# Altium schematic symbol library cs42448_breakout.SchLib: 2 symbols
Pins are listed as number, name and electrical type; pins without a type are passive.

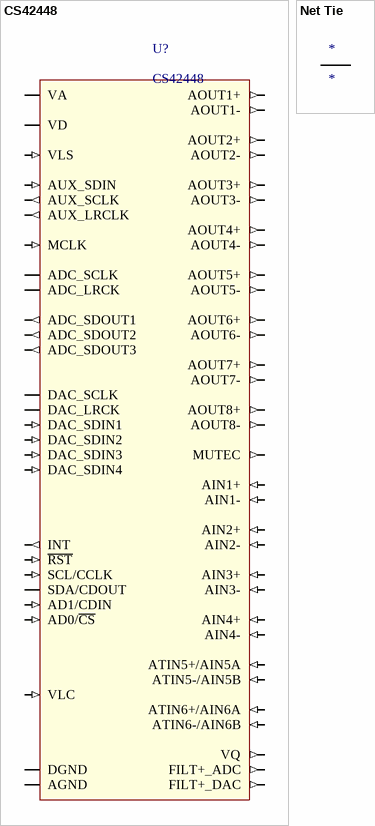
[diagram p0: symbols CS42448 to Net Tie]

## CS42448
designator U?
108 dB, 192 kHz 6-In, 8-Out CODEC
footprint 64L-LQFP
pins: 1 AD0/~{CS} (in), 2 AD1/CDIN (in), 3 ~{RST} (in), 4 VLC (in), 5 ADC_LRCK (io), 6 VD (power), 7 DGND (power), 8 VLS (in), 9 ADC_SCLK (io), 10 MCLK (in), 11 ADC_SDOUT3 (out), 12 ADC_SDOUT2 (out), 13 ADC_SDOUT1 (out), 14 DAC_SDIN4 (in), 15 DAC_SDIN3 (in), 16 DAC_SDIN2 (in), 17 DAC_SDIN1 (in), 18 DAC_SCLK (io), 19 DAC_LRCK (io), 20 AUX_LRCLK (out), 21 AUX_SCLK (out), 22 AUX_SDIN (in), 23 DGND (power), 24 VD (power), 25 AOUT1- (out), 26 AOUT1+ (out), 27 AOUT2+ (out), 28 AOUT2- (out), 29 AOUT3- (out), 30 AOUT3+ (out), 31 AOUT4+ (out), 32 AOUT4- (out), 33 AOUT5- (out), 34 AOUT5+ (out), 35 MUTEC (out), 36 AOUT6+ (out), 37 AOUT6- (out), 38 AOUT7- (out), 39 AOUT7+ (out), 40 AOUT8+ (out), 41 AOUT8- (out), 42 AGND (power), 43 VQ (out), 44 VA (power), 45 AIN1- (in), 46 AIN1+ (in), 47 AIN2- (in), 48 AIN2+ (in), 49 AIN3- (in), 50 AIN3+ (in), 51 AIN4- (in), 52 AIN4+ (in), 53 VA (power), 54 FILT+_DAC (out), 55 FILT+_ADC (out), 56 AGND (power), 57 ATIN5-/AIN5B (in), 58 ATIN5+/AIN5A (in), 59 ATIN6-/AIN6B (in), 60 ATIN6+/AIN6A (in), 61 INT (out), 62 DGND (power), 63 SCL/CCLK (in), 64 SDA/CDOUT (io)

## Net Tie
designator *  (net tie, no BOM)
footprint 1608[0603] Net Tie (Chip Capacitor, Body 1.6x0.8mm, IPC High Density)
pins: 1, 2